# Altium footprint library HC49SD.PcbLib: 1 footprints
Each footprint in its own frame and in the unit in brackets; x right, y up, seen from the top. Pads: shape width x height; smd on the part's side, far side on the other; paste and mask are expansions set on the pad; w line width, h text height; cw(c..) or ccw(c..) is an arc to the next point about the centre after c.
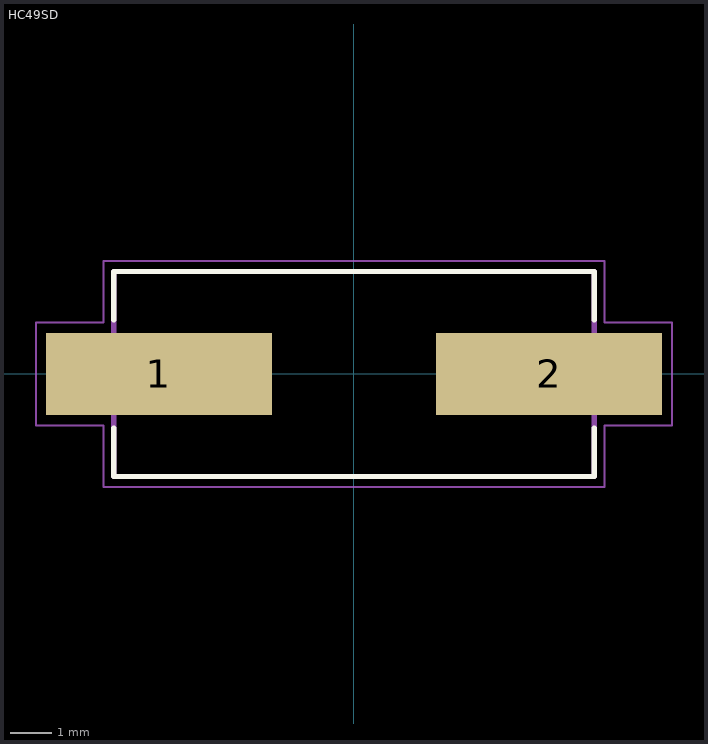
[diagram p0: the footprint, top view; thin cyan lines are the x and y axes]

## HC49SD [mm]
height 4.5
pads (2):
  rect 5.5x2 smd: 1(-4.75,0) 2(4.75,0)
Top Overlay:
  lines w0.127: -5.85,-1.315 -5.85,-2.5 5.85,-2.5 5.85,-1.315 ; -5.85,1.315 -5.85,2.5 5.85,2.5 5.85,1.315
Mechanical 13:
  lines w0.127: -5.85,-2.5 -5.85,2.5 5.85,2.5 5.85,-2.5 -5.85,-2.5
Mechanical 15:
  lines w0.05: -7.75,-1.25 -6.1,-1.25 -6.1,-2.75 6.1,-2.75 6.1,-1.25 7.75,-1.25 7.75,1.25 6.1,1.25 6.1,2.75 -6.1,2.75 -6.1,1.25 -7.75,1.25 -7.75,-1.25
3D body "step_temp.STEP": height 4.5, standoff 0, extent -6.75,-2.5 6.75,2.5